# Altium footprint library k7_ext.PcbLib: 274 footprints (part 4 of 18)
Each footprint in its own frame and in the unit in brackets; x right, y up, seen from the top. Pads: shape width x height; smd on the part's side, far side on the other; paste and mask are expansions set on the pad; w line width, h text height; cw(c..) or ccw(c..) is an arc to the next point about the centre after c.
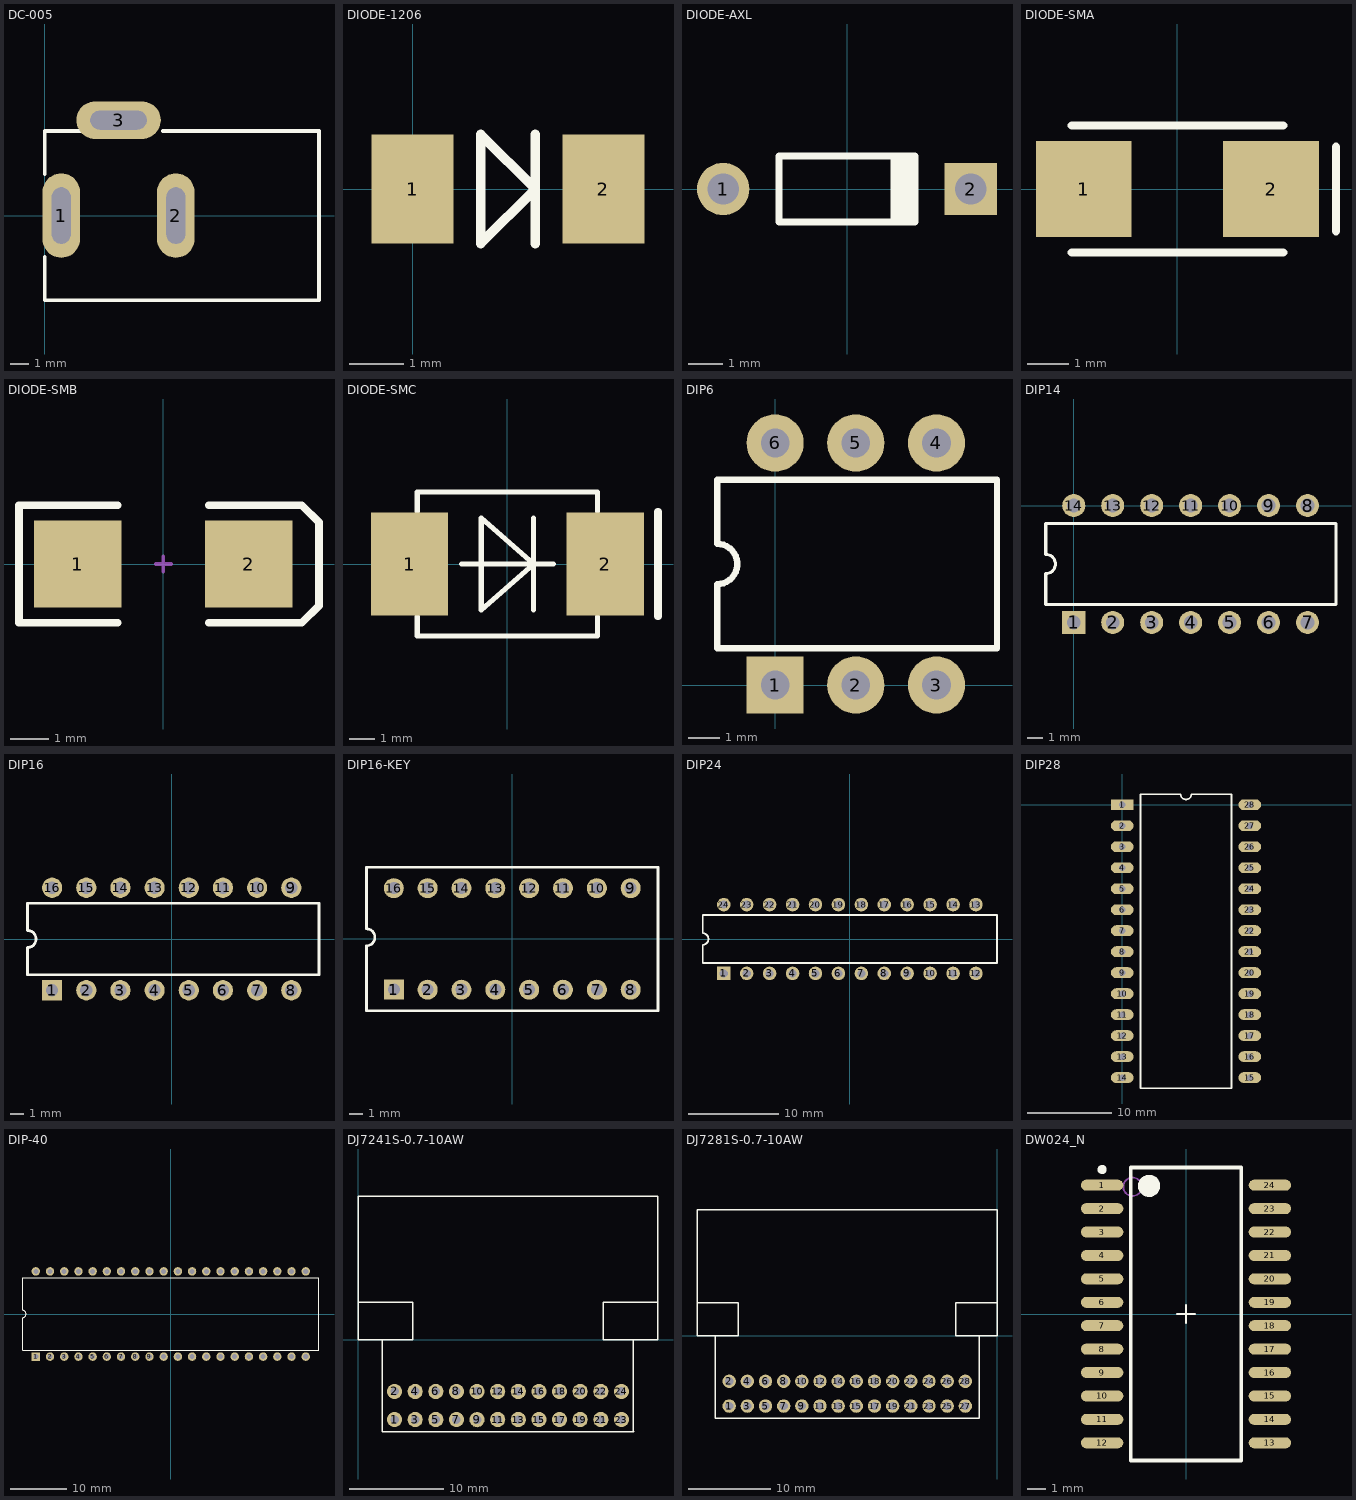
[diagram p3: the footprints below, top view; thin cyan lines are the x and y axes]

## DC-005 [mm] "DC母座5.5mm"
height 12.75
pads (3):
  oval 2x4.5 hole 1 slot 3 at 90 deg: 1(0.889,0) 2(6.985,0)
  oval 4.5x2 hole 1 slot 3 at 0 deg: 3(3.937,5.08)
Top Overlay:
  lines w0.2: 0.005,-2.2 0.005,-4.5 14.605,-4.5 14.605,4.5 6.305,4.5 ; 0.005,2.2 0.005,4.5 1.905,4.5
3D body: height 11, standoff 0, extent 0,-4.445 14.605,4.445

## DIODE-1206 [mm] "玻璃封装二极管"
height 3
pads (2):
  rect 1.5x2 smd: 1(0,0) 2(3.5,0)
Top Overlay:
  lines w0.178: 2.25,-1 2.25,1 ; 1.25,-1 1.25,1 2.25,0 1.25,-1

## DIODE-AXL [mm] "直插二极管"
height 1.9
pads (2):
  round 1.5 hole 0.9: 1(-3.55,0)
  rect 1.5x1.5 hole 0.9: 2(3.55,0)
Top Overlay:
  rectangle: 1.25,-0.95 2.05,0.95
  lines w0.2: 1.95,-0.95 -1.95,-0.95 -1.95,0.95 1.95,0.95

## DIODE-SMA [mm] "贴片二极管"
height 2.54
pads (2):
  rect 2.3x2.3 smd: 1(-2.25,0) 2(2.25,0)
Top Overlay:
  lines w0.2: -2.54,-1.524 2.54,-1.524 ; -2.54,1.524 2.54,1.524 ; 3.81,-1.016 3.81,1.016
3D body: height 3, standoff 0, extent -2.921,-1.397 2.921,1.397

## DIODE-SMB [mm] "DO-214-AA/SMB; 2 C-Bend Leads; Body 5.3 x 3.6 mm, inc. leads (LxW)"
height 2.54
pads (2):
  rect 2.3x2.3 smd: 1(-2.25,0) 2(2.25,0)
Top Overlay:
  lines w0.2: -1.2,-1.55 -3.8,-1.55 -3.8,1.55 -1.2,1.55 ; 1.2,-1.55 3.65,-1.55 4.1,-1.1 4.1,1.1 3.65,1.55 1.2,1.55
Mechanical 1:
  lines w0.1: -0.2,0 0.2,0 ; 0,-0.2 0,0.2

## DIODE-SMC [mm] "贴片二极管"
height 1.5
pads (2):
  rect 3x4 smd: 1(-3.8,0) 2(3.8,0)
Top Overlay:
  lines w0.2: -3.5,-2.032 -3.5,-2.794 3.5,-2.794 3.5,-2.032 ; -3.5,2.032 -3.5,2.794 3.5,2.794 3.5,2.032 ; -1.778,0 1.778,0 ; 1.016,-1.778 1.016,1.778 ; -1.016,-1.778 -1.016,1.778 1.016,0 -1.016,-1.778
  lines w0.3: 5.842,-2.032 5.842,2.032
3D body: height 0.8, standoff 0, extent -3.81,-1.905 -3.429,1.905
3D body: height 0.8, standoff 0, extent 3.556,-1.905 3.937,1.905
3D body: height 1, standoff 0, extent -3.429,-2.794 3.556,2.794
3D body: height 1.05, standoff 1, extent 2.921,-2.794 3.429,2.794

## DIP6 [mm]
pads (6):
  rect 1.8x1.8 hole 0.9: 1(0,0)
  round 1.8 hole 0.9: 2(2.54,0) 3(5.08,0) 4(5.08,7.62) 5(2.54,7.62) 6(0,7.62)
Top Overlay:
  lines w0.2: -1.826,1.16 -1.826,3.175 ccw(c-1.826,3.81) -1.826,4.445 -1.826,6.46 6.985,6.46 6.985,1.16 -1.826,1.16

## DIP14 [mm]
pads (14):
  rect 1.5x1.5 hole 0.9: 1(0,-7.62)
  round 1.5 hole 0.9: 2(2.54,-7.62) 3(5.08,-7.62) 4(7.62,-7.62) 5(10.16,-7.62) 6(12.7,-7.62) 7(15.24,-7.62) 8(15.24,0) 9(12.7,0) 10(10.16,0) 11(7.62,0) 12(5.08,0) 13(2.54,0) 14(0,0)
Top Overlay:
  lines w0.2: -1.826,-6.46 17.094,-6.46 17.094,-1.16 -1.826,-1.16 -1.826,-3.175 cw(c-1.826,-3.81) -1.826,-4.445 -1.826,-6.46

## DIP16 [mm]
height 5.8
pads (16):
  rect 1.5x1.5 hole 0.9: 1(-8.89,-3.81)
  round 1.5 hole 0.9: 2(-6.35,-3.81) 3(-3.81,-3.81) 4(-1.27,-3.81) 5(1.27,-3.81) 6(3.81,-3.81) 7(6.35,-3.81) 8(8.89,-3.81) 9(8.89,3.81) 10(6.35,3.81) 11(3.81,3.81) 12(1.27,3.81) 13(-1.27,3.81) 14(-3.81,3.81) 15(-6.35,3.81) 16(-8.89,3.81)
Top Overlay:
  lines w0.2: -10.716,-2.65 -10.716,-0.635 ccw(c-10.716,0) -10.716,0.635 -10.716,2.65 10.95,2.65 10.95,-2.65 -10.716,-2.65

## DIP16-KEY [mm] "DIP拨码开关"
height 2.65
pads (16):
  rect 1.5x1.5 hole 0.9: 1(-8.89,-3.81)
  round 1.5 hole 0.9: 2(-6.35,-3.81) 3(-3.81,-3.81) 4(-1.27,-3.81) 5(1.27,-3.81) 6(3.81,-3.81) 7(6.35,-3.81) 8(8.89,-3.81) 9(8.89,3.81) 10(6.35,3.81) 11(3.81,3.81) 12(1.27,3.81) 13(-1.27,3.81) 14(-3.81,3.81) 15(-6.35,3.81) 16(-8.89,3.81)
Top Overlay:
  lines w0.2: -10.94,0.76 cw(c-10.94,0.125) -10.94,-0.51 -10.94,-5.4 10.94,-5.4 10.94,5.39 -10.94,5.39 -10.94,0.79

## DIP24 [mm] "DIP; 24,74ls154"
height 5.08
pads (24):
  rect 1.5x1.5 hole 0.9: 1(-13.97,-3.81)
  round 1.5 hole 0.9: 2(-11.43,-3.81) 3(-8.89,-3.81) 4(-6.35,-3.81) 5(-3.81,-3.81) 6(-1.27,-3.81) 7(1.27,-3.81) 8(3.81,-3.81) 9(6.35,-3.81) 10(8.89,-3.81) 11(11.43,-3.81) 12(13.97,-3.81) 13(13.97,3.81) 14(11.43,3.81) 15(8.89,3.81) 16(6.35,3.81) 17(3.81,3.81) 18(1.27,3.81) 19(-1.27,3.81) 20(-3.81,3.81) 21(-6.35,3.81) 22(-8.89,3.81) 23(-11.43,3.81) 24(-13.97,3.81)
Top Overlay:
  lines w0.2: -16.3,-2.65 16.3,-2.65 16.3,2.65 -16.3,2.65 -16.3,0.635 cw(c-16.3,0) -16.3,-0.635 -16.3,-2.65

## DIP28 [mm]
pads (28):
  rect 2.7x1.3 hole 0.8: 1(0,0)
  oval 2.7x1.3 hole 0.8: 2(0,-2.5) 3(0,-5) 4(0,-7.5) 5(0,-10) 6(0,-12.5) 7(0,-15) 8(0,-17.5) 9(0,-20) 10(0,-22.5) 11(0,-25) 12(0,-27.5) 13(0,-30) 14(0,-32.5) 15(15.2,-32.5) 16(15.2,-30) 17(15.2,-27.5) 18(15.2,-25) 19(15.2,-22.5) 20(15.2,-20) 21(15.2,-17.5) 22(15.2,-15) 23(15.2,-12.5) 24(15.2,-10) 25(15.2,-7.5) 26(15.2,-5) 27(15.2,-2.5) 28(15.2,0)
Top Overlay:
  lines w0.2: 2.185,-33.75 13.015,-33.75 13.015,1.25 8.225,1.25 cw(c7.6,1.25) 6.975,1.25 2.185,1.25 2.185,-33.75
3D body: height 4, standoff 0, extent 2.185,-33.75 13.015,1.25

## DIP-40 [mm] "51单片机"
height 4.7
pads (40):
  rect 1.5x1.5 hole 0.9: 1(-24.13,-7.62)
  round 1.5 hole 0.9: 2(-21.59,-7.62) 3(-19.05,-7.62) 4(-16.51,-7.62) 5(-13.97,-7.62) 6(-11.43,-7.62) 7(-8.89,-7.62) 8(-6.35,-7.62) 9(-3.81,-7.62) 10(-1.27,-7.62) 11(1.27,-7.62) 12(3.81,-7.62) 13(6.35,-7.62) 14(8.89,-7.62) 15(11.43,-7.62) 16(13.97,-7.62) 17(16.51,-7.62) 18(19.05,-7.62) 19(21.59,-7.62) 20(24.13,-7.62) 21(24.13,7.62) 22(21.59,7.62) 23(19.05,7.62) 24(16.51,7.62) 25(13.97,7.62) 26(11.43,7.62) 27(8.89,7.62) 28(6.35,7.62) 29(3.81,7.62) 30(1.27,7.62) 31(-1.27,7.62) 32(-3.81,7.62) 33(-6.35,7.62) 34(-8.89,7.62) 35(-11.43,7.62) 36(-13.97,7.62) 37(-16.51,7.62) 38(-19.05,7.62) 39(-21.59,7.62) 40(-24.13,7.62)
Top Overlay:
  lines w0.2: -26.5,-6.45 -26.5,-0.635 ccw(c-26.5,0) -26.5,0.635 -26.5,6.45 26.5,6.45 26.5,-6.45 -26.5,-6.45

## DJ7241S-0.7-10AW [mm]
height 15.4
pads (24):
  round 1.624 hole 0.9: 1(3.9,-8.5) 2(3.9,-5.5) 3(6.1,-8.5) 4(6.1,-5.5) 5(8.3,-8.5) 6(8.3,-5.5) 7(10.5,-8.5) 8(10.5,-5.5) 9(12.7,-8.509) 10(12.7,-5.5) 11(14.9,-8.5) 12(14.9,-5.5) 13(17.1,-8.5) 14(17.1,-5.5) 15(19.3,-8.5) 16(19.3,-5.5) 17(21.5,-8.5) 18(21.5,-5.5) 19(23.7,-8.5) 20(23.7,-5.5) 21(25.9,-8.5) 22(25.9,-5.5) 23(28.1,-8.5) 24(28.1,-5.5)
Top Overlay:
  lines w0.152: 0,4 5.8,4 5.84,3.96 5.84,3.023 5.84,0 2.579,0 ; 27.7,15.3 32,15.3 32,0 29.376,0 ; 29.351,-9.779 2.579,-9.779 2.579,0 ; 29.351,0 26.16,0 26.16,4 32,4 ; 29.376,-9.754 29.376,-0.025 ; 2.579,0 0,0 0,15.3 3.9,15.3 28.1,15.3 ; 28.1,15.3 28.1,15.3
  lines w0.203: 29.351,-9.779 29.376,-9.754

## DJ7281S-0.7-10AW [mm]
pads (28):
  round 1.624 hole 1: 1(-32.436,-8.5) 2(-32.436,-5.5) 3(-30.236,-8.5) 4(-30.236,-5.5) 5(-28.036,-8.5) 6(-28.036,-5.5) 7(-25.836,-8.5) 8(-25.836,-5.5) 9(-23.636,-8.5) 10(-23.636,-5.5) 11(-21.436,-8.5) 12(-21.436,-5.5) 13(-19.236,-8.5) 14(-19.236,-5.5) 15(-17.036,-8.5) 16(-17.036,-5.5) 17(-14.836,-8.5) 18(-14.836,-5.5) 19(-12.636,-8.5) 20(-12.636,-5.5) 21(-10.436,-8.5) 22(-10.436,-5.5) 23(-8.236,-8.5) 24(-8.236,-5.5) 25(-6.036,-8.5) 26(-6.036,-5.5) 27(-3.836,-8.5) 28(-3.836,-5.5)
Top Overlay:
  lines w0.152: -36.336,4 -31.336,4 -31.336,0 ; -33.336,0 -36.336,0 -36.336,15.3 -32.436,15.3 -8.236,15.3 ; -8.636,15.3 0,15.3 0,0 -2.921,0 ; 0,4 -5,4 -5,0 -2.136,0 -2.136,-10 -34.136,-10 -34.136,0 -31.336,0 ; -31.336,0 -31.336,0 ; -8.236,15.3 -8.236,15.3

## DW024_N [mm] "74hc154"
height 2.65
pads (24):
  oval 2.3x0.6 smd: 1(-4.55,6.985) 2(-4.55,5.715) 3(-4.55,4.445) 4(-4.55,3.175) 5(-4.55,1.905) 6(-4.55,0.635) 7(-4.55,-0.635) 8(-4.55,-1.905) 9(-4.55,-3.175) 10(-4.55,-4.445) 11(-4.55,-5.715) 12(-4.55,-6.985) 13(4.55,-6.985) 14(4.55,-5.715) 15(4.55,-4.445) 16(4.55,-3.175) 17(4.55,-1.905) 18(4.55,-0.635) 19(4.55,0.635) 20(4.55,1.905) 21(4.55,3.175) 22(4.55,4.445) 23(4.55,5.715) 24(4.55,6.985)
Top Overlay:
  circle w0.25: c-4.55,7.835 r0.125
  circle w0.6: c-2,6.95 r0.3
  lines w0.1: -0.5,0 0.5,0 ; 0,-0.5 0,0.5
  lines w0.2: -3,-7.95 -3,7.95 3,7.95 3,-7.95 -3,-7.95
Mechanical 13:
  circle w0.1: c-2.9,6.9 r0.5
3D body: height 2.65, standoff 0, extent -3.8,-7.8 3.8,7.8